# Altium footprint library MY-I.MX6-PCB_Library.PcbLib: 53 footprints (part 4 of 4)
Each footprint in its own frame and in the unit in brackets; x right, y up, seen from the top. Pads: shape width x height; smd on the part's side, far side on the other; paste and mask are expansions set on the pad; w line width, h text height; cw(c..) or ccw(c..) is an arc to the next point about the centre after c.
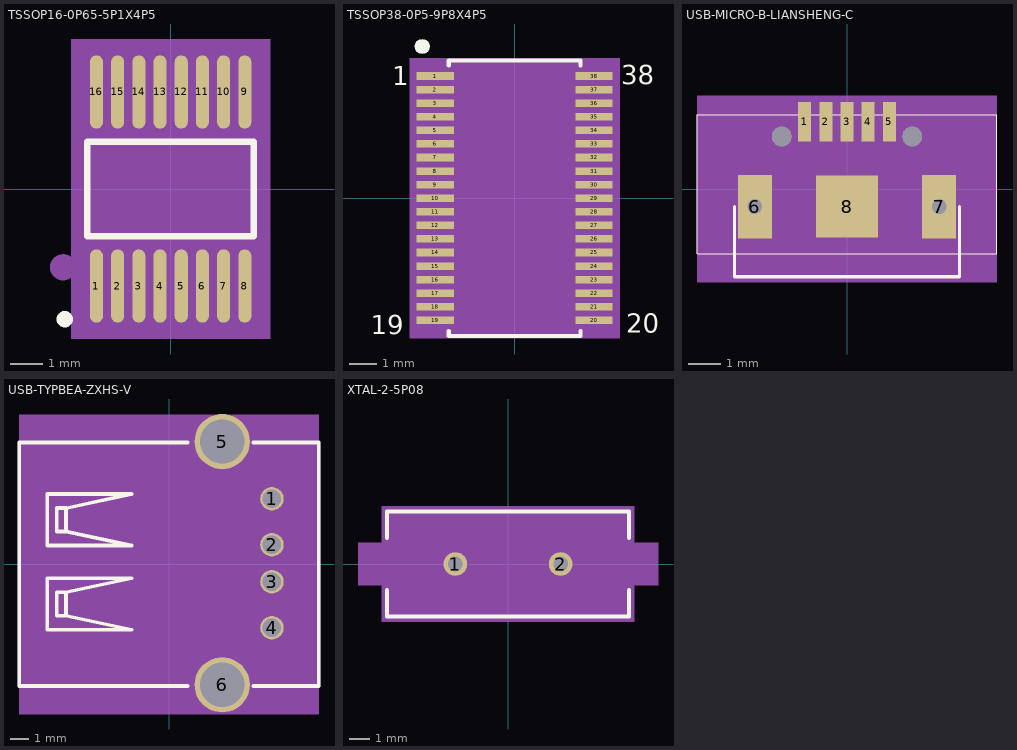
[diagram p3: the footprints below, top view; thin cyan lines are the x and y axes]

## TSSOP16-0P65-5P1X4P5 [mm] "TSSOP16-0P65-5P1X4P5"
pads (16):
  oval 0.4x2.25 smd: 1(-2.275,-2.975) 2(-1.625,-2.975) 3(-0.975,-2.975) 4(-0.325,-2.975) 5(0.325,-2.975) 6(0.975,-2.975) 7(1.625,-2.975) 8(2.275,-2.975) 9(2.275,2.975) 10(1.625,2.975) 11(0.975,2.975) 12(0.325,2.975) 13(-0.325,2.975) 14(-0.975,2.975) 15(-1.625,2.975) 16(-2.275,2.975)
Top Overlay:
  circle w0.25: c-3.248,-3.993 r0.125
  lines w0.2: -2.55,-1.45 2.55,-1.45 2.55,1.45 -2.55,1.45 -2.55,-1.45
  text ".Designator" at -3.786,-2.08 h0.7
Top Courtyard:
  dashed: -2.425,-3.3 -2.425,-2.25 -2.55,-2.25 -2.55,2.25 -2.425,2.25 -2.425,3.3 2.425,3.3 2.425,2.25 2.55,2.25 2.55,-2.25 2.425,-2.25 2.425,-3.3
Top 3D Body:
  region: -3.05,-4.6 3.05,-4.6 3.05,4.6 -3.05,4.6
Top Component Center:
  circle w0.025: c0,0 r0.5
  lines w0.025: -1,0 1,0 ; 0,-1 0,1
Mechanical 16:
  text "14" at -0.975,3.138 h0.45
  text "12" at 0.325,3.138 h0.45
  text "11" at 0.975,3.138 h0.45
  text "13" at -0.325,3.138 h0.45
  text "7" at 1.625,-2.993 h0.45
  text "8" at 2.275,-2.993 h0.45
  text "5" at 0.325,-2.993 h0.45
  text "6" at 0.975,-2.993 h0.45
  text "1" at -2.275,-2.993 h0.45
  text "10" at 1.625,3.138 h0.45
  text "4" at -0.325,-2.993 h0.45
  text "2" at -1.625,-2.993 h0.45
  text "3" at -0.975,-2.993 h0.45
  text "9" at 2.275,2.957 h0.45
  text "16" at -2.275,3.138 h0.45
  text "15" at -1.625,3.138 h0.45
Top Assembly:
  circle w0.4: c-3.3,-2.4 r0.2
  lines w0.2: -2.275,-2.45 -2.275,-2.25 ; -2.275,2.25 -2.275,2.45 ; -1.625,-2.45 -1.625,-2.25 ; -1.625,2.25 -1.625,2.45 ; -0.975,-2.45 -0.975,-2.25 ; -0.975,2.25 -0.975,2.45 ; -0.325,-2.45 -0.325,-2.25 ; -0.325,2.25 -0.325,2.45 ; 0.325,-2.45 0.325,-2.25 ; 0.325,2.25 0.325,2.45 ; 0.975,-2.45 0.975,-2.25 ; 0.975,2.25 0.975,2.45 ; 1.625,-2.45 1.625,-2.25 ; 1.625,2.25 1.625,2.45 ; 2.275,-2.45 2.275,-2.25 ; 2.275,2.25 2.275,2.45 ; -2.55,-2.25 2.55,-2.25 2.55,2.25 -2.55,2.25 -2.55,-2.25
  lines w0.3: -2.275,-3.2 -2.275,-2.45 ; -2.275,2.45 -2.275,3.2 ; -1.625,-3.2 -1.625,-2.45 ; -1.625,2.45 -1.625,3.2 ; -0.975,-3.2 -0.975,-2.45 ; -0.975,2.45 -0.975,3.2 ; -0.325,-3.2 -0.325,-2.45 ; -0.325,2.45 -0.325,3.2 ; 0.325,-3.2 0.325,-2.45 ; 0.325,2.45 0.325,3.2 ; 0.975,-3.2 0.975,-2.45 ; 0.975,2.45 0.975,3.2 ; 1.625,-3.2 1.625,-2.45 ; 1.625,2.45 1.625,3.2 ; 2.275,-3.2 2.275,-2.45 ; 2.275,2.45 2.275,3.2
  text "RichardLC" at 0,1.434 h0.45
  text "SP3232EEY" at 0,2.074 h0.64
Top Component Outline:
  circle w0.025: c0,0 r0.5
  lines w0.025: -1,0 1,0 ; 0,-1 0,1
3D body: height 3.81, standoff 0, extent -3.05,-4.6 3.05,4.6

## TSSOP38-0P5-9P8X4P5 [mil] "TSSOP38-0P5-9P8X4P5"
pads (38):
  rect 54x11 smd: 1(-115.16,177.17) 2(-115.16,157.48) 3(-115.16,137.8) 4(-115.16,118.11) 5(-115.16,98.43) 6(-115.16,78.74) 7(-115.16,59.06) 8(-115.16,39.37) 9(-115.16,19.69) 10(-115.16,0) 11(-115.16,-19.69) 12(-115.16,-39.37) 13(-115.16,-59.06) 14(-115.16,-78.74) 15(-115.16,-98.43) 16(-115.16,-118.11) 17(-115.16,-137.8) 18(-115.16,-157.48) 19(-115.16,-177.17) 20(115.16,-177.17) 21(115.16,-157.48) 22(115.16,-137.8) 23(115.16,-118.11) 24(115.16,-98.43) 25(115.16,-78.74) 26(115.16,-59.06) 27(115.16,-39.37) 28(115.16,-19.69) 29(115.16,0) 30(115.16,19.69) 31(115.16,39.37) 32(115.16,59.06) 33(115.16,78.74) 34(115.16,98.43) 35(115.16,118.11) 36(115.16,137.8) 37(115.16,157.48) 38(115.16,177.17)
Top Overlay:
  dashed: -134,209.16 -129.85,209.99 -126.34,212.34 -123.99,215.85 -123.16,220 -123.99,224.15 -124.77,225.33 -126.34,227.66 -129.85,230.01 -134,230.84 -138.15,230.01 -141.66,227.66 -143.23,225.33 -144.01,224.15 -144.84,220 -144.01,215.85 -141.66,212.34 -138.15,209.99
  lines w6: -95.58,-192.67 -95.58,-199.91 95.58,-199.91 95.58,-192.67 ; -95.58,192.67 -95.58,199.91 95.58,199.91 95.58,192.67
  text ".Designator" at -188.39,280.26 h27.56
  text "1" at -177.72,163.6 h27.56
  text "19" at -208.44,-197.26 h27.56
  text "20" at 161.56,-194.78 h27.56
  text "38" at 154.79,165.26 h27.56
Top Courtyard:
  dashed: -142.17,-192.91 142.17,-192.91 142.17,192.91 -142.17,192.91
Top 3D Body:
  region: -142.17,-192.91 142.17,-192.91 142.17,192.91 -142.17,192.91
Top Component Center:
  lines w1: -10,0 10,0 ; 0,-10 0,10
Mechanical 16:
  text "14" at -115.16,-70.74 h10
  text "25" at 115.16,-70.74 h10
  text "8" at -115.16,43.37 h10
  text "31" at 115.16,47.37 h10
  text "36" at 115.16,145.8 h10
  text "3" at -115.16,141.8 h10
  text "5" at -115.16,102.43 h10
  text "34" at 115.16,106.43 h10
  text "11" at -115.16,-11.69 h10
  text "28" at 115.16,-11.69 h10
  text "12" at -115.16,-31.37 h10
  text "27" at 115.16,-31.37 h10
  text "19" at -115.16,-169.17 h10
  text "7" at -115.16,63.06 h10
  text "32" at 115.16,67.06 h10
  text "13" at -115.16,-51.06 h10
  text "26" at 115.16,-51.06 h10
  text "16" at -115.16,-110.11 h10
  text "33" at 115.16,86.74 h10
  text "6" at -115.16,82.74 h10
  text "15" at -115.16,-90.43 h10
  text "24" at 115.16,-90.43 h10
  text "2" at -115.16,161.48 h10
  text "30" at 115.16,27.69 h10
  text "9" at -115.16,23.69 h10
  text "4" at -115.16,122.11 h10
  text "35" at 115.16,126.11 h10
  text "10" at -115.16,8 h10
  text "29" at 115.16,8 h10
  text "22" at 115.16,-129.8 h10
  text "20" at 115.16,-169.17 h10
  text "37" at 115.16,165.48 h10
  text "17" at -115.16,-129.8 h10
  text "21" at 115.16,-149.48 h10
  text "38" at 115.16,185.17 h10
  text "18" at -115.16,-149.48 h10
  text "23" at 115.16,-110.11 h10
  text "1" at -115.16,181.17 h10
Top Assembly:
  lines w6: -88.58,-192.91 -88.58,192.91 88.58,192.91 88.58,-192.91 -88.58,-192.91
  text "CM2020" at 0,20.67 h10
  text "1" at -173.85,166.96 h25
  text "19" at -204.06,-193.62 h25
  text "20" at 167.08,-193.5 h25
  text "38" at 161.06,169.25 h25
Mechanical 21:
  dashed: -152.17,-202.91 152.17,-202.91 152.17,202.91 -152.17,202.91
3D body: height 150, standoff 0, extent -142.17,-192.91 142.17,192.91

## USB-MICRO-B-LIANSHENG-C [mm] "USB-MICRO-B-LIANSHENG-C"
pads (10):
  rect 0.4x1.2 smd: 1(-1.3,2.061) 2(-0.65,2.061) 3(0,2.061) 4(0.65,2.061) 5(1.3,2.061)
  rect 1.05x1.95 hole 0.45: 6(-2.825,-0.539) 7(2.825,-0.539)
  rect 1.9x1.9 smd: 8(0,-0.539)
  round 0.6 hole 0.6: ""(-2,1.611) ""(2,1.611)
Top Overlay:
  lines w0.025: -4.6,-1.989 -4.6,2.281 4.6,2.281 4.6,-1.989 -4.6,-1.989
  lines w0.1: -3.45,-0.539 -3.45,-2.689 3.45,-2.689 3.45,-0.539
  text ".Designator" at -4.009,3.08 h0.7
Top 3D Body:
  region: -4.6,-2.856 4.6,-2.856 4.6,2.856 -4.6,2.856
Mechanical 16:
  text "1" at -1.617,2.782 h0.64
  text "3" at -0.3,2.751 h0.64
  text "2" at -0.927,2.761 h0.64
  text "4" at 0.342,2.709 h0.64
  text "8" at -0.4,0.529 h0.64
  text "6" at -3.127,0.529 h0.64
  text "7" at 2.445,0.569 h0.64
  text "5" at 0.969,2.751 h0.64
Top Assembly:
  lines w0.025: -4.6,-1.989 4.6,-1.989 4.6,2.281 -4.6,2.281 -4.6,-1.989
  text "A01SB1441B01-457" at -0.708,-0.75 h0.64
3D body: height 3.81, standoff 0, extent -4.6,-2.856 4.6,2.856

## USB-TYPBEA-ZXHS-V [mm] "USB-TYPBEA-ZXHS-V"
pads (6):
  round 1.27 hole 1: 1(5.588,3.556) 2(5.588,1.056) 3(5.588,-0.944) 4(5.588,-3.444)
  round 3 hole 2.4: 5(2.888,6.656) 6(2.888,-6.544)
Top Overlay:
  lines w0.203: 1.016,-6.604 -8.128,-6.604 -8.128,6.604 1.016,6.604 ; 4.572,-6.604 8.128,-6.604 8.128,6.604 4.572,6.604 ; -5.588,-2.794 -5.588,-1.524 ; -5.588,-2.794 -6.096,-2.794 -6.096,-1.524 -5.588,-1.524 ; -5.588,-2.794 -2.032,-3.556 -6.604,-3.556 -6.604,-0.762 -2.032,-0.762 -5.588,-1.524 ; -5.588,1.778 -5.588,3.048 ; -5.588,1.778 -6.096,1.778 -6.096,3.048 -5.588,3.048 ; -5.588,1.778 -2.032,1.016 -6.604,1.016 -6.604,3.81 -2.032,3.81 -5.588,3.048
  text ".Designator" at 9.8,7.936 h0.7
Top 3D Body:
  region: 8.128,8.128 8.128,-8.128 -8.128,-8.128 -8.128,8.128
Mechanical 16:
  text "2" at 5.588,1.361 h0.76
  text "3" at 5.588,-0.639 h0.76
  text "5" at 2.888,6.961 h0.76
  text "6" at 2.888,-6.239 h0.76
  text "1" at 5.588,3.861 h0.76
  text "4" at 5.588,-3.139 h0.76
Top Assembly:
  lines w0.203: 1.016,-6.604 -8.128,-6.604 -8.128,6.604 1.016,6.604 ; 4.572,-6.604 8.128,-6.604 8.128,6.604 4.572,6.604 ; -5.588,-2.794 -6.096,-2.794 -6.096,-1.524 -5.588,-1.524 ; -5.588,-2.794 -5.588,-1.524 ; -5.588,-2.794 -2.032,-3.556 -6.604,-3.556 -6.604,-0.762 -2.032,-0.762 -5.588,-1.524 ; -5.588,1.778 -2.032,1.016 -6.604,1.016 -6.604,3.81 -2.032,3.81 -5.588,3.048 ; -5.588,1.778 -6.096,1.778 -6.096,3.048 -5.588,3.048 ; -5.588,1.778 -5.588,3.048
  text "USB_A" at 0,1.167 h0.7
3D body: height 3.81, standoff 0, extent -8.128,-8.128 8.128,8.128

## XTAL-2-5P08 [mil] "XTAL-2-5P08"
pads (2):
  round 45 hole 28: 1(-100,0) 2(100,0)
Top Overlay:
  lines w8: -230,-50 -230,-100 230,-100 230,-50 ; -230,50 -230,100 230,100 230,50
  text ".Designator" at -267.68,5.23 h27.56
Top 3D Body:
  region: -240,-110 -240,-40 -285,-40 -285,40 -240,40 -240,110 240,110 240,40 285,40 285,-40 240,-40 240,-110
Mechanical 16:
  text "1" at -90,0 h25
  text "2" at 110,0 h25
Top Assembly:
  lines w1: -225,-95 -225,95 225,95 225,-95 -225,-95 ; -130,-75 cw(c-130,0) -130,75 130,75 cw(c130,0) 130,-75 -130,-75
3D body: height 150, standoff 0, extent -285,-110 285,110